# EAGLE library part SM5470-DIFF-PRESS-SENSOR (library components)
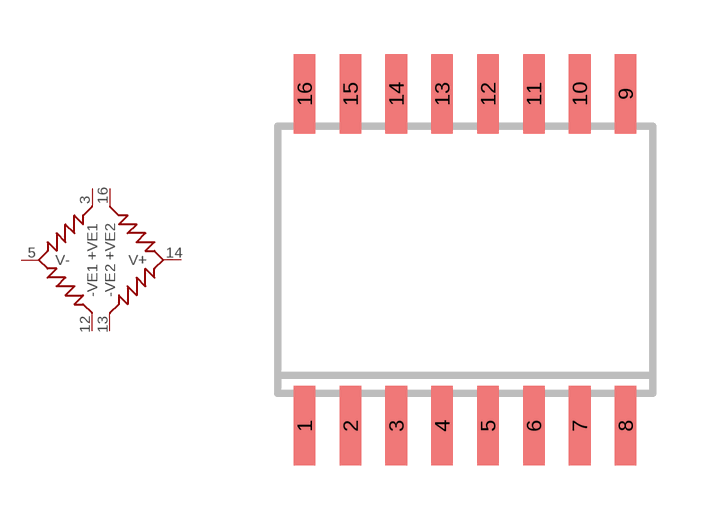
[diagram p39: symbol with the pads of SO16W; footprint SO16W]

Designator prefix U

## SM5470-DIFF-PRESS-SENSOR (DESCRIPTION: SM5470 Differential pressure sensor; FOOTPRINT: SO16-Wide; MANU: SI-Micro; MPN: SM5470)  [SO16W]
3  +VE1  pas
5  V-  pas
12  -VE1  pas
13  -VE2  pas
14  V+  pas
16  +VE2  pas

## Footprint SO16W (pad centres in mm)
SMALL OUTLINE INTEGRATED CIRCUIT wide body 7.5 mm/JEDEC MS-013AA
smd 0.6 x 2.2: 1 -4.445,-4.6; 2 -3.175,-4.6; 3 -1.905,-4.6; 4 -0.635,-4.6; 5 0.635,-4.6; 6 1.905,-4.6; 7 3.175,-4.6; 8 4.445,-4.6; 9 4.445,4.6; 10 3.175,4.6; 11 1.905,4.6; 12 0.635,4.6; 13 -0.635,4.6; 14 -1.905,4.6; 15 -3.175,4.6; 16 -4.445,4.6